# Altium footprint library spin5v1_simple.PcbLib: 34 footprints (part 4 of 4)
Each footprint in its own frame and in the unit in brackets; x right, y up, seen from the top. Pads: shape width x height; smd on the part's side, far side on the other; paste and mask are expansions set on the pad; w line width, h text height; cw(c..) or ccw(c..) is an arc to the next point about the centre after c.
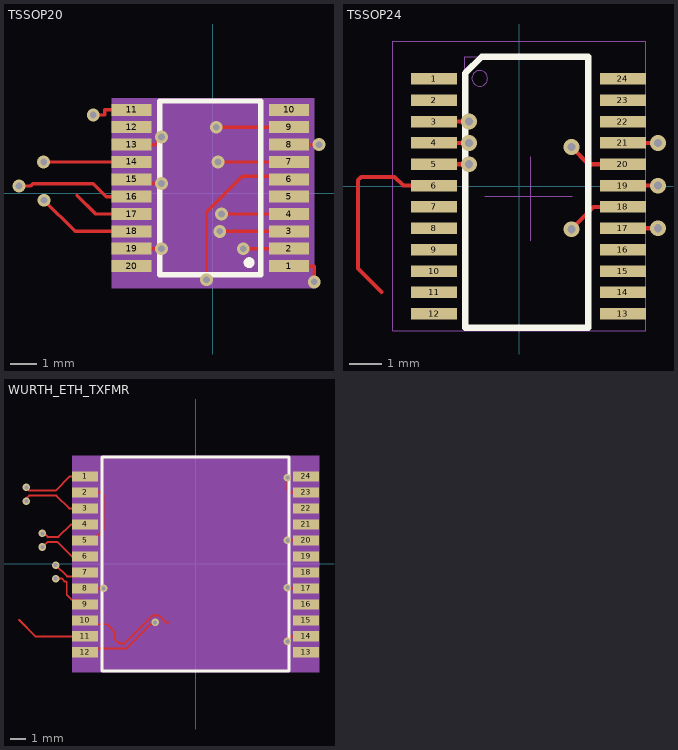
[diagram p3: the footprints below, top view; thin cyan lines are the x and y axes]

## TSSOP20 [mm] "TSSOP20"
pads (20):
  rect 1.5x0.45 smd: 1(2.857,-2.727) 2(2.857,-2.077) 3(2.857,-1.427) 4(2.857,-0.777) 5(2.857,-0.127) 6(2.857,0.523) 7(2.857,1.173) 8(2.857,1.823) 9(2.857,2.473) 10(2.857,3.123) 11(-3.043,3.123) 12(-3.043,2.473) 13(-3.043,1.823) 14(-3.043,1.173) 15(-3.043,0.523) 16(-3.043,-0.127) 17(-3.043,-0.777) 18(-3.043,-1.427) 19(-3.043,-2.077) 20(-3.043,-2.727)
via 0.26,-1.427 diameter 0.48 hole 0.25
via -0.237,-3.236 diameter 0.48 hole 0.25
via 3.974,1.823 diameter 0.48 hole 0.25
via -6.337,1.173 diameter 0.48 hole 0.25
via -1.926,-2.077 diameter 0.48 hole 0.25
via 3.798,-3.319 diameter 0.48 hole 0.25
via 0.125,2.473 diameter 0.48 hole 0.25
via -4.482,2.93 diameter 0.48 hole 0.25
via 0.193,1.173 diameter 0.48 hole 0.25
via -1.926,2.11 diameter 0.48 hole 0.25
via -1.926,0.365 diameter 0.48 hole 0.25
via 1.14,-2.077 diameter 0.48 hole 0.25
via 0.325,-0.777 diameter 0.48 hole 0.25
via -6.325,-0.263 diameter 0.48 hole 0.25
via -7.26,0.272 diameter 0.48 hole 0.25
Top Layer:
  lines w0.127: -7.26,0.272 -6.829,0.272 -6.74,0.361 -4.482,0.361 -3.994,-0.127 -3.043,-0.127 ; -6.337,1.173 -3.043,1.173 ; -6.325,-0.263 -5.161,-1.427 -3.043,-1.427 ; -5.089,-0.07 -4.382,-0.777 -3.043,-0.777 ; -4.482,2.93 -4.051,2.93 -4.051,3.123 -3.043,3.123 ; -3.043,-2.077 -1.926,-2.077 ; -3.043,0.523 -3.043,0.365 -1.926,0.365 ; -3.043,1.823 -2.166,1.823 -1.926,2.063 -1.926,2.11 ; -0.237,-3.236 -0.237,-0.7 1.097,0.634 2.857,0.634 2.857,0.523 ; 0.125,2.473 2.857,2.473 ; 0.193,1.173 2.857,1.173 ; 0.26,-1.427 2.857,-1.427 ; 0.325,-0.777 2.857,-0.777 ; 1.14,-2.077 2.857,-2.077 ; 2.857,-2.727 3.798,-2.727 3.798,-3.319 ; 2.857,1.823 3.974,1.823
Top Overlay:
  circle w0.2: c1.357,-2.597 r0.102
  lines w0.2: -1.983,-3.047 -1.983,3.453 1.797,3.453 1.797,-3.037 1.787,-3.047 -1.983,-3.047
Mechanical 9:
  text "17" at 0.197,-0.657 h2.7
  text "3" at 5.907,-1.267 h2.7
  text "5" at 5.837,0.053 h2.7
  text "10" at 8.057,3.133 h2.7
  text "6" at 5.847,0.683 h2.7
  text "8" at 5.867,1.903 h2.7
  text "14" at 0.177,1.223 h2.7
  text "12" at 0.177,2.533 h2.7
  text "1" at 5.867,-2.607 h2.7
  text "19" at 0.207,-1.957 h2.7
  text "9" at 5.917,2.553 h2.7
  text "11" at 0.167,3.173 h2.7
  text "7" at 5.917,1.323 h2.7
  text "13" at 0.177,1.903 h2.7
  text "20" at 0.187,-2.597 h2.7
  text "15" at 0.167,0.623 h2.7
  text "2" at 5.867,-1.977 h2.7
  text "4" at 5.857,-0.667 h2.7
  text "18" at 0.187,-1.287 h2.7
  text "16" at 0.197,-0.007 h2.7
Mechanical 10:
  lines w0.025: -0.373,0.203 0.207,0.203 ; -0.093,-0.287 -0.093,0.553 ; 1.407,-2.997 1.807,-2.597 ; -1.993,-2.997 -1.993,3.403 1.807,3.403 1.807,-2.997 -1.993,-2.997
  text ".Designator" at 0.907,-1.297 h0.8
Mechanical 11:
  region: 3.793,3.553 3.793,-3.553 -3.793,-3.553 -3.793,3.553
Mechanical 12:
  text "U67" at -1.593,-3.797 h1.6
3D body: height 1.2, standoff 0, extent -3.355,-3.123 3.101,3.377

## TSSOP24 [mm] "TSSOP24"
pads (24):
  rect 1.4x0.35 smd: 1(-2.595,3.265) 2(-2.595,2.615) 3(-2.595,1.965) 4(-2.595,1.315) 5(-2.595,0.665) 6(-2.595,0.015) 7(-2.595,-0.635) 8(-2.595,-1.285) 9(-2.595,-1.935) 10(-2.595,-2.585) 11(-2.595,-3.235) 12(-2.595,-3.885) 13(3.155,-3.885) 14(3.155,-3.235) 15(3.155,-2.585) 16(3.155,-1.935) 17(3.155,-1.285) 18(3.155,-0.635) 19(3.155,0.015) 20(3.155,0.665) 21(3.155,1.315) 22(3.155,1.965) 23(3.155,2.615) 24(3.155,3.265)
via 1.587,-1.31 diameter 0.48 hole 0.25
via -1.528,1.965 diameter 0.48 hole 0.25
via -1.528,1.315 diameter 0.48 hole 0.25
via -1.528,0.665 diameter 0.48 hole 0.25
via 4.222,-1.285 diameter 0.48 hole 0.25
via 4.222,1.315 diameter 0.48 hole 0.25
via 1.587,1.19 diameter 0.48 hole 0.25
via 4.223,0.015 diameter 0.48 hole 0.25
Top Layer:
  lines w0.127: -4.195,-3.228 -4.911,-2.512 -4.911,0.181 -4.811,0.281 -3.796,0.281 -3.53,0.015 -2.595,0.015 ; -2.595,0.665 -1.528,0.665 ; -2.595,1.315 -1.528,1.315 ; -2.595,1.965 -1.528,1.965 ; 1.587,-1.31 2.262,-0.635 3.155,-0.635 ; 1.587,1.19 2.112,0.665 3.155,0.665 ; 3.155,-1.285 4.222,-1.285 ; 3.155,0.015 4.223,0.015 ; 3.155,1.315 4.222,1.315
Top Overlay:
  lines w0.2: -1.645,-4.31 -1.395,-4.31 2.105,-4.31 2.105,3.94 -1.145,3.94 -1.645,3.44 -1.645,-4.31
Mechanical 9:
  text "15" at 3.585,-2.57 h0.8
  text "11" at -4.385,-3.25 h0.8
  text "12" at -4.425,-3.88 h0.8
  text "14" at 3.595,-3.24 h0.8
  text "16" at 3.595,-1.92 h0.8
  text "22" at 3.585,1.98 h0.8
  text "13" at 3.615,-3.91 h0.8
  text "2" at -3.985,2.61 h0.8
  text "24" at 3.575,3.26 h0.8
  text "23" at 3.605,2.62 h0.8
  text "1" at -3.965,3.26 h0.8
  text "18" at 3.605,-0.66 h0.8
  text "6" at -4.015,0.01 h0.8
  text "3" at -3.975,1.97 h0.8
  text "4" at -3.985,1.33 h0.8
  text "5" at -4.015,0.66 h0.8
  text "17" at 3.585,-1.29 h0.8
  text "7" at -3.995,-0.64 h0.8
  text "21" at 3.595,1.34 h0.8
  text "20" at 3.605,0.66 h0.8
  text "19" at 3.605,-0.01 h0.8
  text "10" at -4.375,-2.59 h0.8
  text "9" at -4.035,-1.97 h0.8
  text "8" at -3.965,-1.27 h0.8
Mechanical 13:
  circle w0.025: c-1.205,3.28 r0.24
  lines w0.025: -1.045,-0.31 1.615,-0.31 ; 0.355,-1.66 0.355,0.9 ; -1.655,-4.31 -1.645,-4.31 2.105,-4.31 2.105,3.94 -1.655,3.94 -1.655,-4.31
  text ".Designator" at -0.145,0.19 h0.8
Mechanical 14:
  lines w0.025: -3.855,-4.41 -3.855,4.41 3.855,4.41 3.855,-4.41 -3.855,-4.41
3D body: height 1.2, standoff 0, extent -3.025,-4.23 3.431,3.57

## WURTH_ETH_TXFMR [mm] "WURTH_ETH_TXFMR"
pads (24):
  rect 1.65x0.64 smd: 1(-7.05,5.59) 2(-7.05,4.57) 3(-7.05,3.55) 4(-7.05,2.53) 5(-7.05,1.51) 6(-7.05,0.49) 7(-7.05,-0.53) 8(-7.05,-1.55) 9(-7.05,-2.57) 10(-7.05,-3.59) 11(-7.05,-4.61) 12(-7.05,-5.63) 13(7.05,-5.63) 14(7.05,-4.61) 15(7.05,-3.59) 16(7.05,-2.57) 17(7.05,-1.55) 18(7.05,-0.53) 19(7.05,0.49) 20(7.05,1.51) 21(7.05,2.53) 22(7.05,3.55) 23(7.05,4.57) 24(7.05,5.59)
via -2.579,-3.722 diameter 0.48 hole 0.25
via -10.795,4.018 diameter 0.48 hole 0.25
via -10.795,4.887 diameter 0.48 hole 0.25
via -8.926,-0.934 diameter 0.48 hole 0.25
via -9.768,1.084 diameter 0.48 hole 0.25
via -8.926,-0.065 diameter 0.48 hole 0.25
via -9.768,1.953 diameter 0.48 hole 0.25
via -5.858,-1.55 diameter 0.48 hole 0.25
via 5.858,1.51 diameter 0.48 hole 0.25
via 5.858,-4.931 diameter 0.48 hole 0.25
via 5.858,-1.503 diameter 0.48 hole 0.25
via 5.858,5.5 diameter 0.48 hole 0.25
Top Layer:
  lines w0.125: -10.795,4.018 -10.795,4.186 -10.619,4.362 -8.878,4.362 -8.066,3.55 -7.05,3.55 ; -10.795,4.887 -10.595,4.687 -8.927,4.687 -8.024,5.59 -7.05,5.59 ; -9.768,1.084 -9.453,1.399 -8.796,1.399 -7.887,0.49 -7.05,0.49 ; -9.768,1.953 -9.663,1.953 -9.434,1.724 -8.747,1.724 -7.941,2.53 -7.05,2.53 ; -8.926,-0.934 -8.517,-0.934 -8.333,-1.118 -8.264,-1.118 -8.216,-1.166 -8.216,-1.959 -7.871,-2.304 -7.316,-2.304 -7.05,-2.57 ; -8.926,-0.065 -8.198,-0.793 -7.313,-0.793 -7.05,-0.53 ; -7.05,-5.63 -6.804,-5.384 -4.389,-5.384 -2.847,-3.842 -2.711,-3.842 -2.591,-3.722 -2.579,-3.722 ; -7.05,-3.59 -6.796,-3.844 -5.639,-3.844 -5.143,-4.34 -5.143,-4.79 -4.874,-5.059 -4.524,-5.059 -2.757,-3.292 -2.325,-3.292 -1.895,-3.722 -1.71,-3.722
  lines w0.127: -11.263,-3.566 -10.219,-4.61 -7.05,-4.61 ; -7.05,-1.55 -5.858,-1.55 ; -7.05,1.51 -6.545,1.51 -5.866,2.189 -5.866,4.402 -6.034,4.57 -7.05,4.57 ; 5.858,-4.931 5.858,-4.85 6.098,-4.61 7.05,-4.61 ; 5.858,-1.503 5.905,-1.55 7.05,-1.55 ; 5.858,1.51 7.05,1.51 ; 5.858,5.5 5.858,4.697 5.985,4.57 7.05,4.57
Top Overlay:
  lines w0.2: -5.97,-6.82 -5.97,6.82 5.97,6.82 5.97,-6.82 -5.97,-6.82
  text ".Designator" at -9,5.5 h1.6
Mechanical 9:
  text "12" at -3.796,-6.13 h0.64
  text "3" at -4.308,3.05 h0.64
  text "10" at -3.796,-4.09 h0.64
  text "1" at -4.308,5.09 h0.64
  text "9" at -4.308,-3.07 h0.64
  text "6" at -4.308,-0.01 h0.64
  text "7" at -4.308,-1.03 h0.64
  text "4" at -4.308,2.03 h0.64
  text "2" at -4.308,4.07 h0.64
  text "5" at -4.308,1.01 h0.64
  text "8" at -4.308,-2.05 h0.64
  text "11" at -3.796,-5.11 h0.64
  text "20" at 6.304,1.01 h0.64
  text "14" at 6.304,-5.11 h0.64
  text "17" at 6.304,-2.05 h0.64
  text "23" at 6.304,4.07 h0.64
  text "21" at 6.304,2.03 h0.64
  text "19" at 6.304,-0.01 h0.64
  text "24" at 6.304,5.09 h0.64
  text "22" at 6.304,3.05 h0.64
  text "18" at 6.304,-1.03 h0.64
  text "16" at 6.304,-3.07 h0.64
  text "15" at 6.304,-4.09 h0.64
  text "13" at 6.304,-6.13 h0.64
Mechanical 13:
  circle w0.025: c-5.36,5.6 r0.332
  lines w0.025: -1.25,0 1.25,0 ; 0,-1.25 0,1.25 ; -5.97,-6.82 -5.97,6.82 5.97,6.82 5.97,-6.82 -5.97,-6.82
Mechanical 14:
  region: -7.875,-6.92 7.875,-6.92 7.875,6.92 -7.875,6.92
3D body: height 3, standoff 0, extent -5.983,-6.833 5.983,6.833